# Altium footprint library ASICs.PcbLib: 3 footprints
Each footprint in its own frame and in the unit in brackets; x right, y up, seen from the top. Pads: shape width x height; smd on the part's side, far side on the other; paste and mask are expansions set on the pad; w line width, h text height; cw(c..) or ccw(c..) is an arc to the next point about the centre after c.
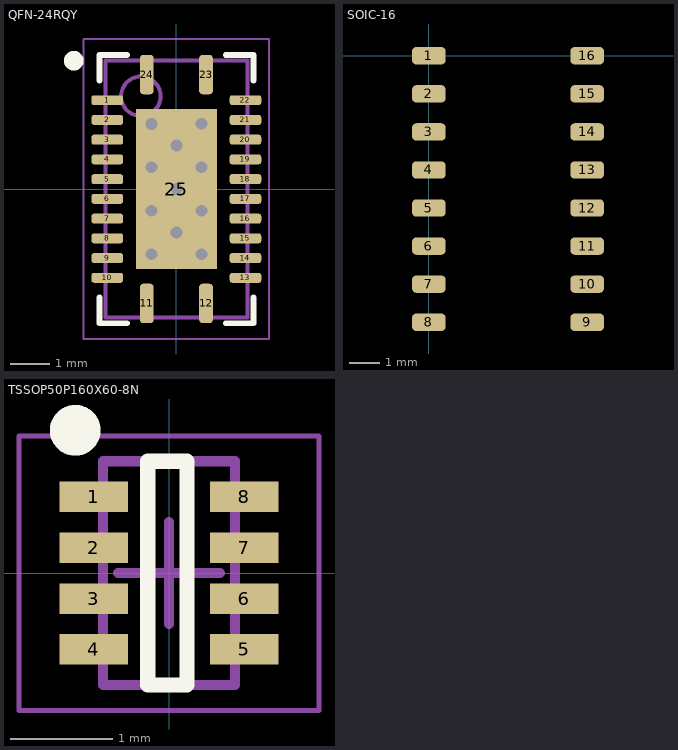
[diagram p0: the footprints below, top view; thin cyan lines are the x and y axes]

## QFN-24RQY [mm] "QFN, 24-Leads, Body 3,50x5,95mm, Pitch 1,50mm/0,50mm, Thermal Pad 2,05x4,05mm, IPC Medium Density"
height 1
pads (25):
  rrect50% 0.8x0.25 smd: 1(-1.75,2.25) 2(-1.75,1.75) 3(-1.75,1.25) 4(-1.75,0.75) 5(-1.75,0.25) 6(-1.75,-0.25) 7(-1.75,-0.75) 8(-1.75,-1.25) 9(-1.75,-1.75) 10(-1.75,-2.25) 13(1.75,-2.25) 14(1.75,-1.75) 15(1.75,-1.25) 16(1.75,-0.75) 17(1.75,-0.25) 18(1.75,0.25) 19(1.75,0.75) 20(1.75,1.25) 21(1.75,1.75) 22(1.75,2.25)
  rrect50% 0.35x1 smd: 11(-0.75,-2.9) 12(0.75,-2.9) 23(0.75,2.9) 24(-0.75,2.9)
  rect 2.05x4.05 smd: 25(0,0)
via -0.635,-1.651 diameter 0.6 hole 0.3
via 0.635,-0.55 diameter 0.6 hole 0.3
via -0.635,-0.55 diameter 0.6 hole 0.3
via -0.635,1.651 diameter 0.6 hole 0.3
via 0.635,1.651 diameter 0.6 hole 0.3
via 0.635,-1.651 diameter 0.6 hole 0.3
via 0.635,0.55 diameter 0.6 hole 0.3
via -0.635,0.55 diameter 0.6 hole 0.3
via 0,0 diameter 0.6 hole 0.3
via 0,1.101 diameter 0.6 hole 0.3
via 0,-1.101 diameter 0.6 hole 0.3
Top Overlay:
  circle w0.25: c-2.6,3.25 r0.125
  lines w0.15: -1.95,-2.75 -1.95,-3.4 -1.25,-3.4 ; -1.95,2.75 -1.95,3.4 -1.25,3.4 ; 1.25,-3.4 1.95,-3.4 1.95,-2.75 ; 1.25,3.4 1.95,3.4 1.95,2.75
Top Assembly:
  circle w0.1: c-0.9,2.35 r0.5
  lines w0.1: -1.8,-3.25 1.8,-3.25 1.8,3.25 -1.8,3.25 -1.8,-3.25
Top Courtyard:
  lines w0.05: -2.35,-3.8 2.35,-3.8 2.35,3.8 -2.35,3.8 -2.35,-3.8
  lines w0.1: -0.5,0 0.5,0 ; 0,-0.5 0,0.5
3D body "QFN-24RQY.step": height 1, standoff 0, extent -1.81,-3.26 1.81,3.26

## SOIC-16 [mm]
pads (16):
  rrect50% 1.12x0.58 smd: 1(0,0) 2(0,-1.27) 3(0,-2.54) 4(0,-3.81) 5(0,-5.08) 6(0,-6.35) 7(0,-7.62) 8(0,-8.89) 9(5.28,-8.89) 10(5.28,-7.62) 11(5.28,-6.35) 12(5.28,-5.08) 13(5.28,-3.81) 14(5.28,-2.54) 15(5.28,-1.27) 16(5.28,0)

## TSSOP50P160X60-8N [mm] "TSSOP, 8-Leads, Body 2,10x1,20mm, Pitch 0,50mm, IPC Medium Density"
height 0.6
pads (8):
  rect 0.67x0.3 smd mask+0.05: 1(-0.74,0.75) 2(-0.74,0.25) 3(-0.74,-0.25) 4(-0.74,-0.75) 5(0.74,-0.75) 6(0.74,-0.25) 7(0.74,0.25) 8(0.74,0.75)
Top Overlay:
  circle w0.25: c-0.922,1.404 r0.125
  lines w0.15: -0.209,-1.1 -0.209,1.1 0.177,1.1 0.177,-1.1 -0.209,-1.1
Top Assembly:
  lines w0.1: -0.65,-1.1 -0.65,1.1 0.65,1.1 0.65,-1.1 -0.65,-1.1
Top Courtyard:
  lines w0.05: -1.475,-1.35 -1.475,1.35 1.475,1.35 1.475,-1.35 -1.475,-1.35
  lines w0.1: -0.5,0 0.5,0 ; 0,-0.5 0,0.5
3D body: height 0.6, standoff 0, extent -0.647,-1.098 0.647,1.101